# EAGLE library part KINGBRIGHT-CC56-11XWA (library mmoretti)
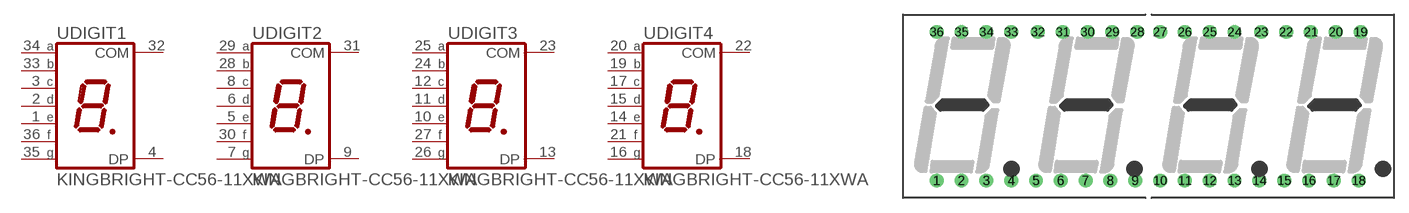
[diagram p3: symbol with the pads of KINGBRIGHT-CC56-11XWA; footprint KINGBRIGHT-CC56-11XWA]

Designator prefix -; gates DIGIT1=7SEG-LED-COM1 DIGIT2=7SEG-LED-COM1 DIGIT3=7SEG-LED-COM1 DIGIT4=7SEG-LED-COM1

## KINGBRIGHT-CC56-11XWA  [KINGBRIGHT-CC56-11XWA]
1  DIGIT1:E  pas
2  DIGIT1:D  pas
3  DIGIT1:C  pas
4  DIGIT1:DP  pas
5  DIGIT2:E  pas
6  DIGIT2:D  pas
7  DIGIT2:G  pas
8  DIGIT2:C  pas
9  DIGIT2:DP  pas
10  DIGIT3:E  pas
11  DIGIT3:D  pas
12  DIGIT3:C  pas
13  DIGIT3:DP  pas
14  DIGIT4:E  pas
15  DIGIT4:D  pas
16  DIGIT4:G  pas
17  DIGIT4:C  pas
18  DIGIT4:DP  pas
19  DIGIT4:B  pas
20  DIGIT4:A  pas
21  DIGIT4:F  pas
22  DIGIT4:COM  pas
23  DIGIT3:COM  pas
24  DIGIT3:B  pas
25  DIGIT3:A  pas
26  DIGIT3:G  pas
27  DIGIT3:F  pas
28  DIGIT2:B  pas
29  DIGIT2:A  pas
30  DIGIT2:F  pas
31  DIGIT2:COM  pas
32  DIGIT1:COM  pas
33  DIGIT1:B  pas
34  DIGIT1:A  pas
35  DIGIT1:G  pas
36  DIGIT1:F  pas

## Footprint KINGBRIGHT-CC56-11XWA (pad centres in mm)
drill 0.8 pad 1.422: 1 -21.69,-7.62; 2 -19.15,-7.62; 3 -16.61,-7.62; 4 -14.07,-7.62; 5 -11.53,-7.62; 6 -8.99,-7.62; 7 -6.45,-7.62; 8 -3.91,-7.62; 9 -1.37,-7.62; 10 1.17,-7.62; 11 3.71,-7.62; 12 6.25,-7.62; 13 8.79,-7.62; 14 11.33,-7.62; 15 13.87,-7.62; 16 16.41,-7.62; 17 18.95,-7.62; 18 21.49,-7.62; 19 21.69,7.62; 20 19.15,7.62; 21 16.61,7.62; 22 14.07,7.62; 23 11.53,7.62; 24 8.79,7.62; 25 6.25,7.62; 26 3.71,7.62; 27 1.17,7.62; 28 -1.17,7.62; 29 -3.71,7.62; 30 -6.25,7.62; 31 -8.79,7.62; 32 -11.33,7.62; 33 -14.07,7.62; 34 -16.61,7.62; 35 -19.15,7.62; 36 -21.69,7.62